# Altium footprint library SWPA系列电感.PcbLib: 21 footprints (part 1 of 2)
Each footprint in its own frame and in the unit in brackets; x right, y up, seen from the top. Pads: shape width x height; smd on the part's side, far side on the other; paste and mask are expansions set on the pad; w line width, h text height; cw(c..) or ccw(c..) is an arc to the next point about the centre after c.
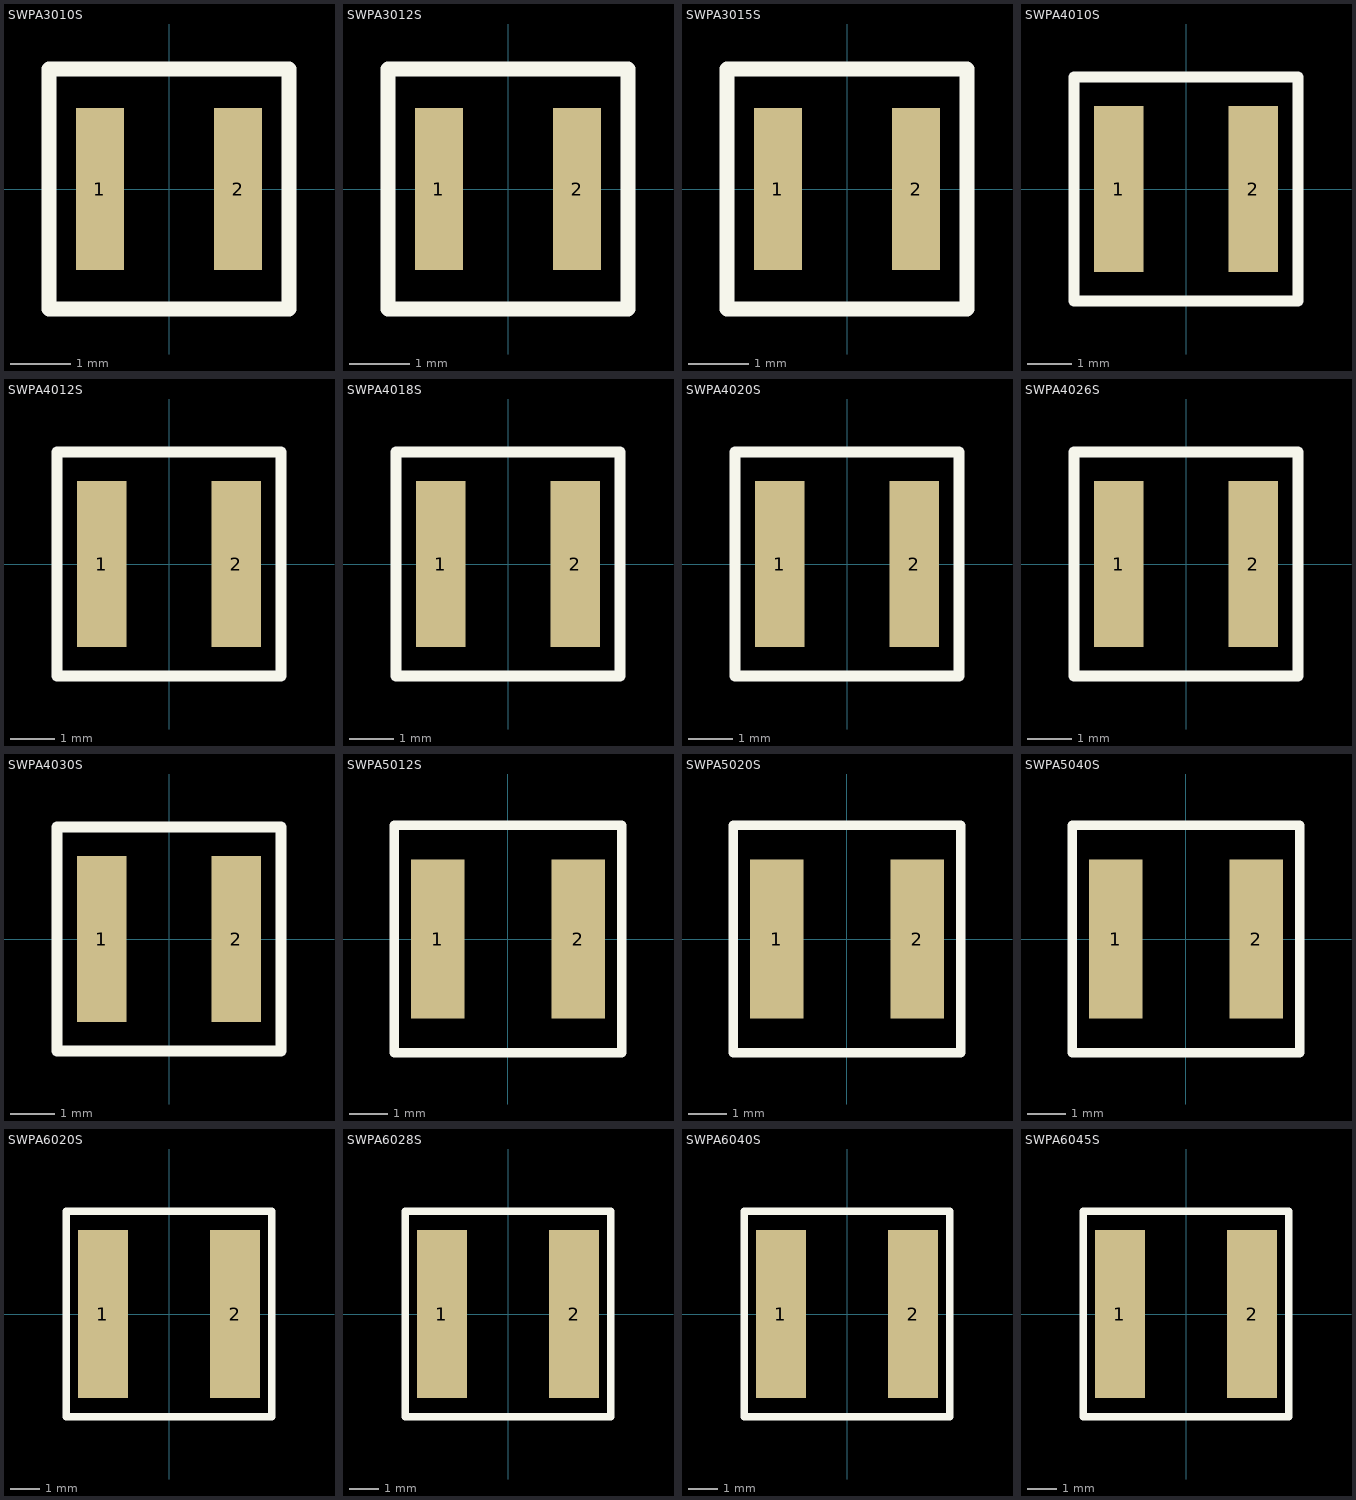
[diagram p0: the footprints below, top view; thin cyan lines are the x and y axes]

## SWPA3010S [mm] "轮廓3mm*3mm ，焊盘间距1.5mm（蒜米工坊）"
height 1
pads (2):
  rect 0.8x2.7 smd: 1(-1.15,0) 2(1.15,0)
Top Overlay:
  lines w0.254: -2,-2 2,-2 2,2 0,2 -2,2 -2,-2
3D body "3010.STEP": height 1, standoff -0.02, extent -1.5,-1.5 1.5,1.5

## SWPA3012S [mm] "轮廓3mm*3mm ，焊盘间距1.5mm（蒜米工坊）"
height 1.2
pads (2):
  rect 0.8x2.7 smd: 1(-1.15,0) 2(1.15,0)
Top Overlay:
  lines w0.254: -2,-2 -2,2 0,2 2,2 2,-2 -2,-2
3D body "3012.STEP": height 1.2, standoff -0.02, extent -1.5,-1.5 1.5,1.5

## SWPA3015S [mm] "轮廓3mm*3mm ，焊盘间距1.5mm（蒜米工坊）"
height 1.5
pads (2):
  rect 0.8x2.7 smd: 1(-1.15,0) 2(1.15,0)
Top Overlay:
  lines w0.254: -2,-2 2,-2 2,2 0,2 -2,2 -2,-2
3D body "3015.STEP": height 1.5, standoff -0.02, extent -1.5,-1.5 1.5,1.5

## SWPA4010S [mm] "轮廓4mm*4mm ，焊盘间距1.9mm（蒜米工坊）"
height 1
pads (2):
  rect 1.1x3.7 smd: 1(-1.5,0) 2(1.5,0)
Top Overlay:
  lines w0.254: -2.5,-2.5 -2.5,2.5 2.5,2.5 2.5,-2.5 -2.5,-2.5
3D body "4010.STEP": height 1, standoff -0.02, extent -2,-2 2,2

## SWPA4012S [mm] "轮廓4mm*4mm ，焊盘间距1.9mm（蒜米工坊）"
height 1.2
pads (2):
  rect 1.1x3.7 smd: 1(-1.5,0) 2(1.5,0)
Top Overlay:
  lines w0.254: -2.5,-2.5 2.5,-2.5 2.5,2.5 -2.5,2.5 -2.5,-2.5
3D body "4012.STEP": height 1.2, standoff -0.02, extent -2,-2 2,2

## SWPA4018S [mm] "轮廓4mm*4mm ，焊盘间距1.9mm（蒜米工坊）"
height 1.8
pads (2):
  rect 1.1x3.7 smd: 1(-1.5,0) 2(1.5,0)
Top Overlay:
  lines w0.254: -2.5,-2.5 -2.5,2.5 2.5,2.5 2.5,-2.5 -2.5,-2.5
3D body "4018.STEP": height 1.8, standoff -0.02, extent -2,-2 2,2

## SWPA4020S [mm] "轮廓4mm*4mm ，焊盘间距1.9mm（蒜米工坊）"
height 2
pads (2):
  rect 1.1x3.7 smd: 1(-1.5,0) 2(1.5,0)
Top Overlay:
  lines w0.254: -2.5,-2.5 2.5,-2.5 2.5,2.5 -2.5,2.5 -2.5,-2.5
3D body "4020.STEP": height 2, standoff -0.02, extent -2,-2 2,2

## SWPA4026S [mm] "轮廓4mm*4mm ，焊盘间距1.9mm（蒜米工坊）"
height 2.6
pads (2):
  rect 1.1x3.7 smd: 1(-1.5,0) 2(1.5,0)
Top Overlay:
  lines w0.254: -2.5,-2.5 -2.5,2.5 2.5,2.5 2.5,-2.5 -2.5,-2.5
3D body "4026.STEP": height 2.6, standoff -0.02, extent -2,-2 2,2

## SWPA4030S [mm] "轮廓4mm*4mm ，焊盘间距1.9mm（蒜米工坊）"
height 3
pads (2):
  rect 1.1x3.7 smd: 1(-1.5,0) 2(1.5,0)
Top Overlay:
  lines w0.254: -2.5,-2.5 -2.5,2.5 2.5,2.5 2.5,-2.5 -2.5,-2.5
3D body "4030.STEP": height 3, standoff -0.02, extent -2,-2 2,2

## SWPA5012S [mm] "轮廓5mm*5mm ，焊盘间距2.3mm（蒜米工坊）"
height 1.2
pads (2):
  rect 1.4x4.2 smd: 1(-1.85,0) 2(1.85,0)
Top Overlay:
  lines w0.254: -3,-3 3,-3 3,3 -3,3 -3,-3
3D body "5012S.STEP": height 1.2, standoff -0.02, extent -2.5,-2.5 2.5,2.5

## SWPA5020S [mm] "轮廓5mm*5mm ，焊盘间距2.3mm（蒜米工坊）"
height 2
pads (2):
  rect 1.4x4.2 smd: 1(-1.85,0) 2(1.85,0)
Top Overlay:
  lines w0.254: -3,-3 -3,3 3,3 3,-3 -3,-3
3D body "5020S.STEP": height 2, standoff -0.02, extent -2.5,-2.5 2.5,2.5

## SWPA5040S [mm] "轮廓5mm*5mm ，焊盘间距2.3mm（蒜米工坊）"
height 4
pads (2):
  rect 1.4x4.2 smd: 1(-1.85,0) 2(1.85,0)
Top Overlay:
  lines w0.254: -3,-3 -3,3 3,3 3,-3 -3,-3
3D body "5040S.SLDPRT": height 4, standoff -0.02, extent -2.5,-2.5 2.5,2.5

## SWPA6020S [mm] "轮廓6mm*6mm ，焊盘间距2.8mm（蒜米工坊）"
height 2
pads (2):
  rect 1.7x5.7 smd: 1(-2.25,0) 2(2.25,0)
Top Overlay:
  lines w0.254: -3.5,-3.5 3.5,-3.5 3.5,3.5 0,3.5 -3.5,3.5 -3.5,-3.5
3D body "6020S.STEP": height 2, standoff -0.02, extent -3,-3 3,3

## SWPA6028S [mm] "轮廓6mm*6mm ，焊盘间距2.8mm（蒜米工坊）"
height 2.8
pads (2):
  rect 1.7x5.7 smd: 1(-2.25,0) 2(2.25,0)
Top Overlay:
  lines w0.254: -3.5,-3.5 -3.5,3.5 0,3.5 3.5,3.5 3.5,-3.5 -3.5,-3.5
3D body "6028S.STEP": height 2.5, standoff -0.02, extent -3,-3 3,3

## SWPA6040S [mm] "轮廓6mm*6mm ，焊盘间距2.8mm（蒜米工坊）"
height 4
pads (2):
  rect 1.7x5.7 smd: 1(-2.25,0) 2(2.25,0)
Top Overlay:
  lines w0.254: -3.5,-3.5 3.5,-3.5 3.5,3.5 0,3.5 -3.5,3.5 -3.5,-3.5
3D body "6040S.STEP": height 4, standoff -0.02, extent -3,-3 3,3

## SWPA6045S [mm] "轮廓6mm*6mm ，焊盘间距2.8mm（蒜米工坊）"
height 4.5
pads (2):
  rect 1.7x5.7 smd: 1(-2.25,0) 2(2.25,0)
Top Overlay:
  lines w0.254: -3.5,-3.5 3.5,-3.5 3.5,3.5 0,3.5 -3.5,3.5 -3.5,-3.5
3D body "6045S.STEP": height 4.5, standoff -0.02, extent -3,-3 3,3